# Altium schematic symbol library MIC23155.SchLib: 2 symbols
Pins are listed as number, name and electrical type; pins without a type are passive.

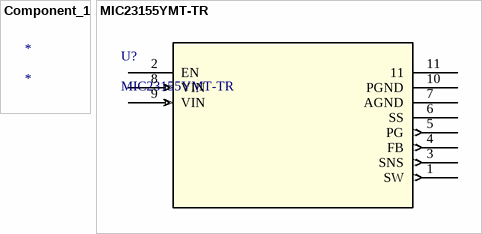
[diagram p0: symbols Component_1 to MIC23155YMT-TR]

## Component_1
designator *

## MIC23155YMT-TR
designator U?
No Description Available; Vendor: Microchip; Built_By: EMA_Jessica; SourceLibrary: Microchip_2019-08-23_2; Manufacturer_Part_Number: MIC23155YMT-TR; Copyright: Copyright (C) 2018 Accelerated Designs. All rights reserved; RefDes: RefDes; Type: DEV
footprint DFN-10_MCH
pins: 1 SW (out), 2 EN, 3 SNS (out), 4 FB (out), 5 PG (out), 6 SS, 7 AGND (power), 8 VIN (in), 9 VIN (in), 10 PGND (power), 11